# EAGLE library part BM15B-SRSS (library con-JST SH)
JST SH series header 1.00mm pitch disconnectable crimp style connectors, vertical (side entry type), 15 pins
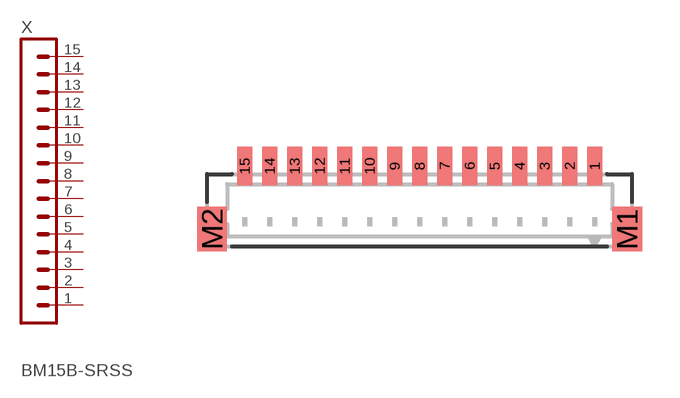
[diagram p9: symbol with the pads of BM15B-SRSS-TB; footprint BM15B-SRSS-TB]

Designator prefix X

## BM15B-SRSS-TB  [BM15B-SRSS-TB]
1  1  pas
2  2  pas
3  3  pas
4  4  pas
5  5  pas
6  6  pas
7  7  pas
8  8  pas
9  9  pas
10  10  pas
11  11  pas
12  12  pas
13  13  pas
14  14  pas
15  15  pas

## Footprint BM15B-SRSS-TB (pad centres in mm)
JST SH series header 1.00mm pitch disconnectable crimp style connectors, SMT vertical (top entry type), 15 pins
smd 0.6 x 1.55: 1 7,0; 2 6,0; 3 5,0; 4 4,0; 5 3,0; 6 2,0; 7 1,0; 8 0,0; 9 -1,0; 10 -2,0; 11 -3,0; 12 -4,0; 13 -5,0; 14 -6,0; 15 -7,0
smd 1.2 x 1.8: M1 8.3,-2.525; M2 -8.3,-2.525